# EAGLE library part CAM-M8 (library ublox)
CAM-M8x: M8 Concurrent GNSS Antenna Module u-blox.com
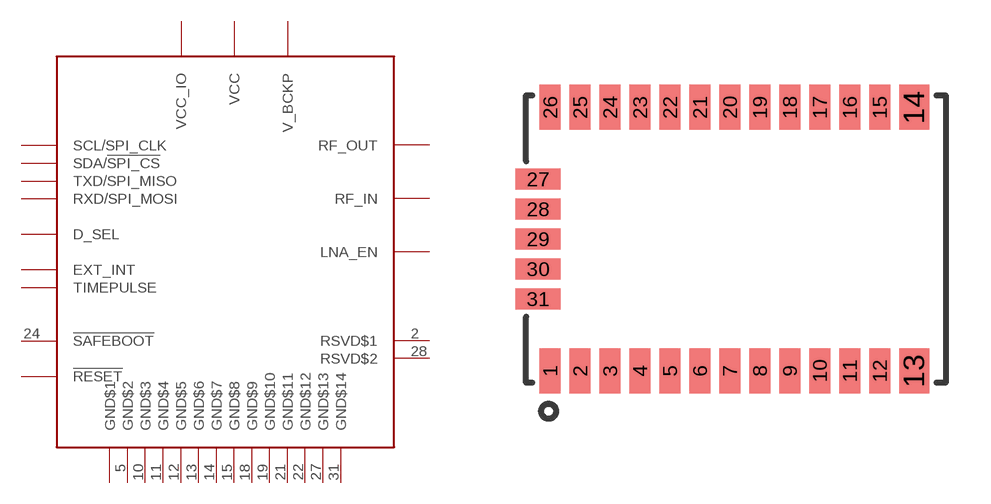
[diagram p15: symbol with the pads of CAM-M8; footprint CAM-M8]

Designator prefix -

## CAM-M8  [CAM-M8]
1  VCC_IO  pwr
2  RSVD$1  nc
3  SDA/!SPI_CS
4  GND$1  pwr
5  GND$2  pwr
6  SCL/SPI_CLK  in
7  EXT_INT
8  V_BCKP  pwr
9  VCC  pwr
10  GND$3  pwr
11  GND$4  pwr
12  GND$5  pwr
13  GND$6  pwr
14  GND$7  pwr
15  GND$8  pwr
16  RF_OUT  out
17  RF_IN  in
18  GND$9  pwr
19  GND$10  pwr
20  D_SEL  in
21  GND$11  pwr
22  GND$12  pwr
23  !RESET  in
24  !SAFEBOOT  in
25  TXD/SPI_MISO  out
26  RXD/SPI_MOSI  in
27  GND$13  pwr
28  RSVD$2  nc
29  TIMEPULSE  out
30  LNA_EN  out
31  GND$14  pwr

## Footprint CAM-M8 (pad centres in mm)
CAM-M8: 31 Pin u-blox.com
smd 0.7 x 1.5: 1 -6.2,-4.4; 2 -5.2,-4.4; 3 -4.2,-4.4; 4 -3.2,-4.4; 5 -2.2,-4.4; 6 -1.2,-4.4; 7 -0.2,-4.4; 8 0.8,-4.4; 9 1.8,-4.4; 10 2.8,-4.4; 11 3.8,-4.4; 12 4.8,-4.4; 15 4.8,4.4; 16 3.8,4.4; 17 2.8,4.4; 18 1.8,4.4; 19 0.8,4.4; 20 -0.2,4.4; 21 -1.2,4.4; 22 -2.2,4.4; 23 -3.2,4.4; 24 -4.2,4.4; 25 -5.2,4.4; 26 -6.2,4.4
smd 1 x 1.5: 13 5.95,-4.4; 14 5.95,4.4
smd 1.5 x 0.7: 27 -6.6,2; 28 -6.6,1; 29 -6.6,0; 30 -6.6,-1; 31 -6.6,-2